# Altium footprint library parts.PcbLib: 8 footprints
Each footprint in its own frame and in the unit in brackets; x right, y up, seen from the top. Pads: shape width x height; smd on the part's side, far side on the other; paste and mask are expansions set on the pad; w line width, h text height; cw(c..) or ccw(c..) is an arc to the next point about the centre after c.
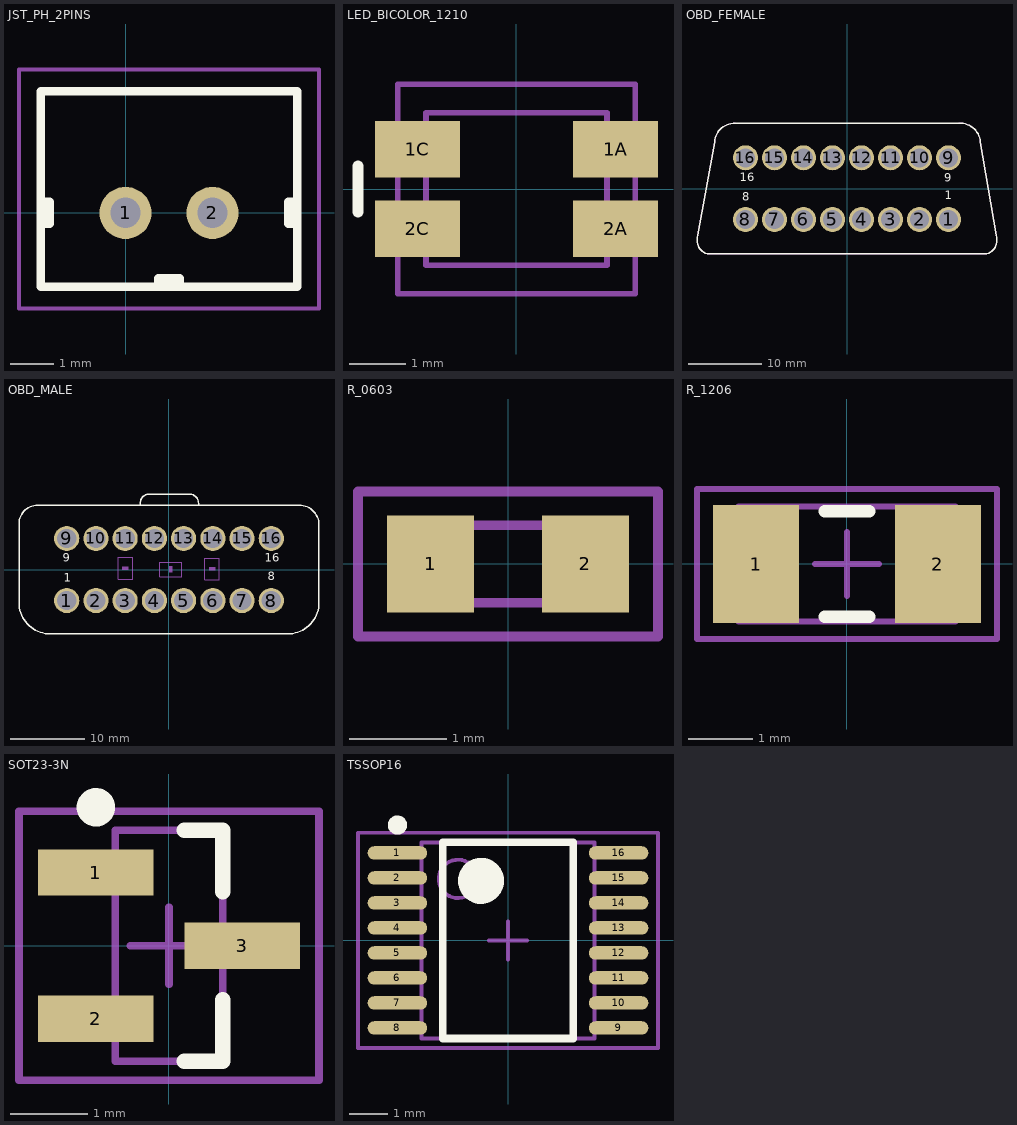
[diagram p0: the footprints below, top view; thin cyan lines are the x and y axes]

## JST_PH_2PINS [mm]
pads (2):
  round 1.2 hole 0.7 unplated: 1(0,0) 2(2,0)
Top Overlay:
  lines w0.2: -1.95,-0.25 -1.75,-0.25 -1.75,0.25 -1.95,0.25 ; 0.75,-1.7 0.75,-1.5 1.25,-1.5 1.25,-1.7 ; 3.95,-0.25 3.75,-0.25 3.75,0.25 3.95,0.25 ; -1.95,-1.7 3.95,-1.7 3.95,2.8 -1.95,2.8 -1.95,-1.7
Mechanical 13:
  lines w0.1: -1.95,-1.7 3.95,-1.7 3.95,2.8 -1.95,2.8 ; -1.95,-1.7 -1.95,2.8 ; -1.95,-1.7 -1.95,-1.7 ; -1.95,2.8 -1.95,2.8
Mechanical 15:
  lines w0.1: -2.45,-2.2 -2.45,3.3 4.45,3.3 4.45,-2.2 -2.45,-2.2
3D body "B2B-PH-K-S.STEP": height 6, standoff -3.4, extent -1.95,-1.7 3.95,2.8

## LED_BICOLOR_1210 [mm] "Bicolor LED; Body 3.2 x 2.7 mm (LxW typ)"
height 1.1
pads (4):
  rect 1.5x1 smd: 1A(1.75,0.7) 1C(-1.75,0.7) 2A(1.75,-0.7) 2C(-1.75,-0.7)
Top Overlay:
  lines w0.2: -2.8,-0.4 -2.8,0.4
Mechanical 13:
  lines w0.1: -1.6,-1.35 -1.6,1.35 1.6,1.35 1.6,-1.35 -1.6,-1.35
Mechanical 15:
  lines w0.1: -2.1,-1.85 2.1,-1.85 2.1,1.85 -2.1,1.85 -2.1,-1.85
3D body: height 0.45, standoff 0, extent -1.6,-1.35 1.613,0
3D body: height 0.45, standoff 0, extent -1.613,0 1.6,1.35

## OBD_FEMALE [mm] "OBD Female connector"
pads (16):
  round 3.4 hole 2.6: 1(13.825,-4.2) 2(9.875,-4.2) 3(5.925,-4.2) 4(1.975,-4.2) 5(-1.975,-4.2) 6(-5.925,-4.2) 7(-9.875,-4.2) 8(-13.825,-4.2) 9(13.825,4.2) 10(9.875,4.2) 11(5.925,4.2) 12(1.975,4.2) 13(-1.975,4.2) 14(-5.925,4.2) 15(-9.875,4.2) 16(-13.825,4.2)
Top Overlay:
  lines w0.2: -20.32,-6.35 ccw(c-18.415,-6.985) -19.05,-8.89 19.05,-8.89 ccw(c18.415,-6.985) 20.32,-6.35 18.161,6.35 ccw(c15.43,6.159) 15.24,8.89 -15.24,8.89 ccw(c-15.367,6.223) -18.034,6.35 -20.32,-6.35
  text "9" at 13.208,0.558 h1.97
  text "8" at -14.242,-2.041 h1.97
  text "16" at -14.623,0.626 h1.97
  text "1" at 13.335,-1.855 h1.97
Mechanical 13:
  lines w0.127: -19.05,-8.89 19.05,-8.89 ; -15.24,8.89 15.24,8.89
  lines w0.152: -19.05,-8.89 cw(c-18.415,-6.985) -20.32,-6.35 -18.034,6.35 cw(c-15.367,6.223) -15.24,8.89 ; 15.24,8.89 cw(c15.43,6.159) 18.161,6.35 20.32,-6.35 cw(c18.415,-6.985) 19.05,-8.89

## OBD_MALE [mm] "OBD Male connector"
pads (16):
  round 3.4 hole 2.6: 1(-13.825,-4.2) 2(-9.875,-4.2) 3(-5.925,-4.2) 4(-1.975,-4.2) 5(1.975,-4.2) 6(5.925,-4.2) 7(9.875,-4.2) 8(13.825,-4.2) 9(-13.825,4.2) 10(-9.875,4.2) 11(-5.925,4.2) 12(-1.975,4.2) 13(1.975,4.2) 14(5.925,4.2) 15(9.875,4.2) 16(13.825,4.2)
Top Overlay:
  lines w0.2: -3.9,8.7 -3.9,8.93 cw(c-2.63,8.93) -2.63,10.2 2.73,10.2 cw(c2.73,8.93) 4,8.93 4,8.73 ; 20.275,-4.473 cw(c16.043,-4.473) 16.043,-8.705 -16.043,-8.705 cw(c-16.043,-4.473) -20.275,-4.473 -20.275,6.18 cw(c-17.749,6.18) -17.749,8.705 17.578,8.705 cw(c17.578,6.008) 20.275,6.008 20.275,-4.473
  text "16" at 12.954,0.635 h1.97
  text "1" at -14.242,-2.041 h1.97
  text "9" at -14.351,0.635 h1.97
  text "8" at 13.335,-1.855 h1.97
Mechanical 31:
  region: -5.493,0.378 -6.293,0.378 -6.293,-0.022 -5.493,-0.022
  region: 6.242,0.276 5.442,0.276 5.442,-0.124 6.242,-0.124
  region: 0.029,0.425 0.029,-0.375 0.428,-0.375 0.428,0.425
Mechanical 35:
  lines w0.051: -6.876,-1.295 -4.91,-1.295 -4.91,1.651 -6.876,1.651 -6.876,-1.295 ; -1.244,-0.958 -1.244,1.008 1.702,1.008 1.702,-0.958 -1.244,-0.958 ; 4.859,-1.397 6.825,-1.397 6.825,1.549 4.859,1.549 4.859,-1.397
3D body "COMTECH_PG-002.STEP": height 19.9, standoff -4.8, extent -20.275,-8.705 20.275,10.205

## R_0603 [mm]
pads (2):
  rect 0.9x1 smd: 1(-0.8,0) 2(0.8,0)
Mechanical 13:
  lines w0.1: -0.8,-0.4 -0.8,0.4 0.8,0.4 0.8,-0.4 -0.8,-0.4
Mechanical 15:
  lines w0.1: -1.55,-0.75 1.55,-0.75 1.55,0.75 -1.55,0.75 -1.55,-0.75
3D body: height 0.45, standoff 0, extent -0.813,-0.406 0.813,0.406

## R_1206 [mm] "Chip resistor, 2-Leads, Body 3,2x1,6mm, IPC Medium Density"
height 0.5
pads (2):
  rect 1.35x1.85 smd: 1(-1.425,0) 2(1.425,0)
Top Overlay:
  lines w0.2: -0.35,-0.825 0.35,-0.825 ; -0.35,0.825 0.35,0.825
Mechanical 13:
  lines w0.1: -1.7,-0.9 1.7,-0.9 1.7,0.9 -1.7,0.9 -1.7,-0.9
Mechanical 15:
  lines w0.1: -0.5,0 0.5,0 ; 0,-0.5 0,0.5 ; -2.35,-1.175 2.35,-1.175 2.35,1.175 -2.35,1.175 -2.35,-1.175
3D body: height 1.6, standoff 0, extent -1.7,-0.9 1.7,0.9

## SOT23-3N [mm] "SOT23, 3-Leads, Body 2.9x1.3mm, Pitch 0.95mm, Lead Span 2.5mm, IPC Medium Density"
height 1.1
pads (3):
  rect 1.5x0.6 smd: 1(-0.95,0.95) 2(-0.95,-0.95) 3(0.95,0)
Top Overlay:
  circle w0.25: c-0.95,1.8 r0.125
  lines w0.2: 0.2,-1.5 0.7,-1.5 0.7,-0.7 ; 0.2,1.5 0.7,1.5 0.7,0.7
Mechanical 13:
  lines w0.1: -0.7,-1.5 -0.7,1.5 0.7,1.5 0.7,-1.5 -0.7,-1.5
Mechanical 15:
  lines w0.1: -0.5,0 0.5,0 ; 0,-0.5 0,0.5 ; -1.95,-1.75 -1.95,1.75 1.95,1.75 1.95,-1.75 -1.95,-1.75
3D body: height 1.1, standoff 0, extent -0.7,-1.5 0.7,1.5

## TSSOP16 [mm] "TSOP, 16-Leads, Body 5,1x4,5mm (max), Pitch 0,65mm, IPC Medium Density"
height 1.2
pads (16):
  oval 1.55x0.35 smd: 1(-2.875,2.275) 2(-2.875,1.625) 3(-2.875,0.975) 4(-2.875,0.325) 5(-2.875,-0.325) 6(-2.875,-0.975) 7(-2.875,-1.625) 8(-2.875,-2.275) 9(2.875,-2.275) 10(2.875,-1.625) 11(2.875,-0.975) 12(2.875,-0.325) 13(2.875,0.325) 14(2.875,0.975) 15(2.875,1.625) 16(2.875,2.275)
Top Overlay:
  circle w0.25: c-2.875,3 r0.125
  circle w0.6: c-0.7,1.55 r0.3
  lines w0.2: -1.7,-2.55 -1.7,2.55 1.7,2.55 1.7,-2.55 -1.7,-2.55
Mechanical 13:
  circle w0.1: c-1.3,1.6 r0.5
  lines w0.1: -2.25,-2.55 -2.25,2.55 2.25,2.55 2.25,-2.55 -2.25,-2.55
Mechanical 15:
  lines w0.1: -0.5,0 0.5,0 ; 0,-0.5 0,0.5 ; -3.9,-2.8 -3.9,2.8 3.9,2.8 3.9,-2.8 -3.9,-2.8
3D body: height 1.2, standoff 0.1, extent -2.25,-2.55 2.25,2.55